# Altium schematic symbol library TL1105F160Q.SchLib: 2 symbols
Pins are listed as number, name and electrical type; pins without a type are passive.

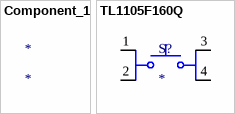
[diagram p0: symbols Component_1 to TL1105F160Q]

## Component_1
designator *

## TL1105F160Q
designator S?
MP: TL1105F160Q; Price: None; Availability: Unavailable; Package: None; Value: *
footprint SW_TL1105F160Q
pins: 1, 2, 3, 4